# Altium footprint library con-edge.PcbLib: 2 footprints
Each footprint in its own frame and in the unit in brackets; x right, y up, seen from the top. Pads: shape width x height; smd on the part's side, far side on the other; paste and mask are expansions set on the pad; w line width, h text height; cw(c..) or ccw(c..) is an arc to the next point about the centre after c.
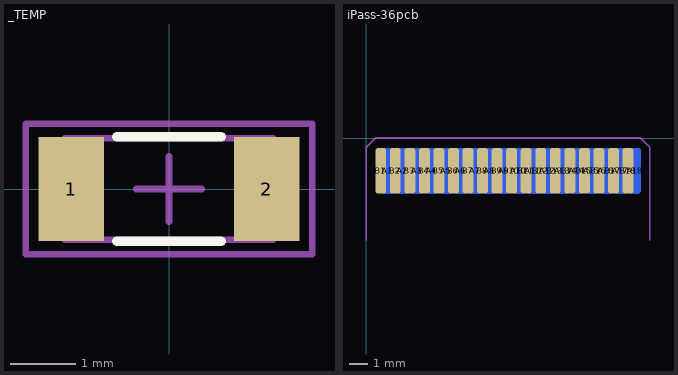
[diagram p0: the footprints below, top view; thin cyan lines are the x and y axes]

## _TEMP [mm]
height 0.6
pads (2):
  rect 1x1.6 smd: 1(-1.5,0) 2(1.5,0)
Top Overlay:
  lines w0.15: -0.8,-0.8 0.8,-0.8 ; -0.8,0.8 0.8,0.8
Top Assembly (Mech3):
  lines w0.1: -1.6,-0.775 -1.6,0.775 1.6,0.775 1.6,-0.775 -1.6,-0.775
Top Courtyard:
  lines w0.1: -0.5,0 0.5,0 ; 0,-0.5 0,0.5 ; -2.2,-1 2.2,-1 2.2,1 -2.2,1 -2.2,-1
3D body "chip_1206_r.STEP": height 0.47, standoff -0.03, extent -1.65,-0.8 1.55,0.8

## iPass-36pcb [mm] "Molex iPass-36 pcb plug"
height 1
pads (36):
  rrect50% 0.6x2.5 smd far side: A1(1.2,-1.8) A2(2,-1.8) A3(2.8,-1.8) A4(3.6,-1.8) A5(4.4,-1.8) A6(5.2,-1.8) A7(6,-1.8) A8(6.8,-1.8) A9(7.6,-1.8) A10(8.4,-1.8) A11(9.2,-1.8) A12(10,-1.8) A13(10.8,-1.8) A14(11.6,-1.8) A15(12.4,-1.8) A16(13.2,-1.8) A17(14,-1.8) A18(14.8,-1.8)
  rrect50% 0.6x2.5 smd: B1(0.8,-1.8) B2(1.6,-1.8) B3(2.4,-1.8) B4(3.2,-1.8) B5(4,-1.8) B6(4.8,-1.8) B7(5.6,-1.8) B8(6.4,-1.8) B9(7.2,-1.8) B10(8,-1.8) B11(8.8,-1.8) B12(9.6,-1.8) B13(10.4,-1.8) B14(11.2,-1.8) B15(12,-1.8) B16(12.8,-1.8) B17(13.6,-1.8) B18(14.4,-1.8)
Top Assembly (Mech3):
  text "Толщина платы 1 мм / На гранях снять фаску 0,3х45град." at 2.4,-5.1 h1
Outlone (Mech19):
  lines w0.1: 0,-5.6 0,-0.5 ; 15.6,-5.6 15.6,-0.5 15.1,0 0.5,0 ; 0,-0.5 0.5,0 ; 0,-0.5 0.5,0